# EAGLE library part CH340E (library CH340E)
Check availability <https://pricing.snapeda.com/parts/CH340E/WCH/view-part?ref=eda>
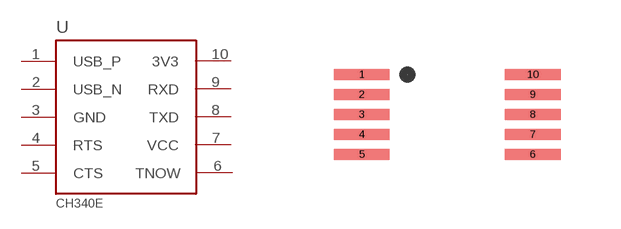
[diagram p0: symbol with the pads of MSOP-10; footprint MSOP-10]

Designator prefix -

## CH340E (Availability: Not in stock; Description: USB to serial chip CH340; MF: WCH; MP: CH340E; Package: Package; Price: None)  [MSOP-10]
1  USB_P
2  USB_N
3  GND
4  RTS
5  CTS
6  TNOW
7  VCC
8  TXD
9  RXD
10  3V3

## Footprint MSOP-10 (pad centres in mm)
smd 1.4 x 0.28: 1 -2.14,1; 2 -2.14,0.5; 3 -2.14,0; 4 -2.14,-0.5; 5 -2.14,-1; 6 2.14,-1; 7 2.14,-0.5; 8 2.14,0; 9 2.14,0.5; 10 2.14,1